# Altium integrated library TI_Logic_Specialty_Logic.IntLib: 2504 symbols (part 40 of 81)
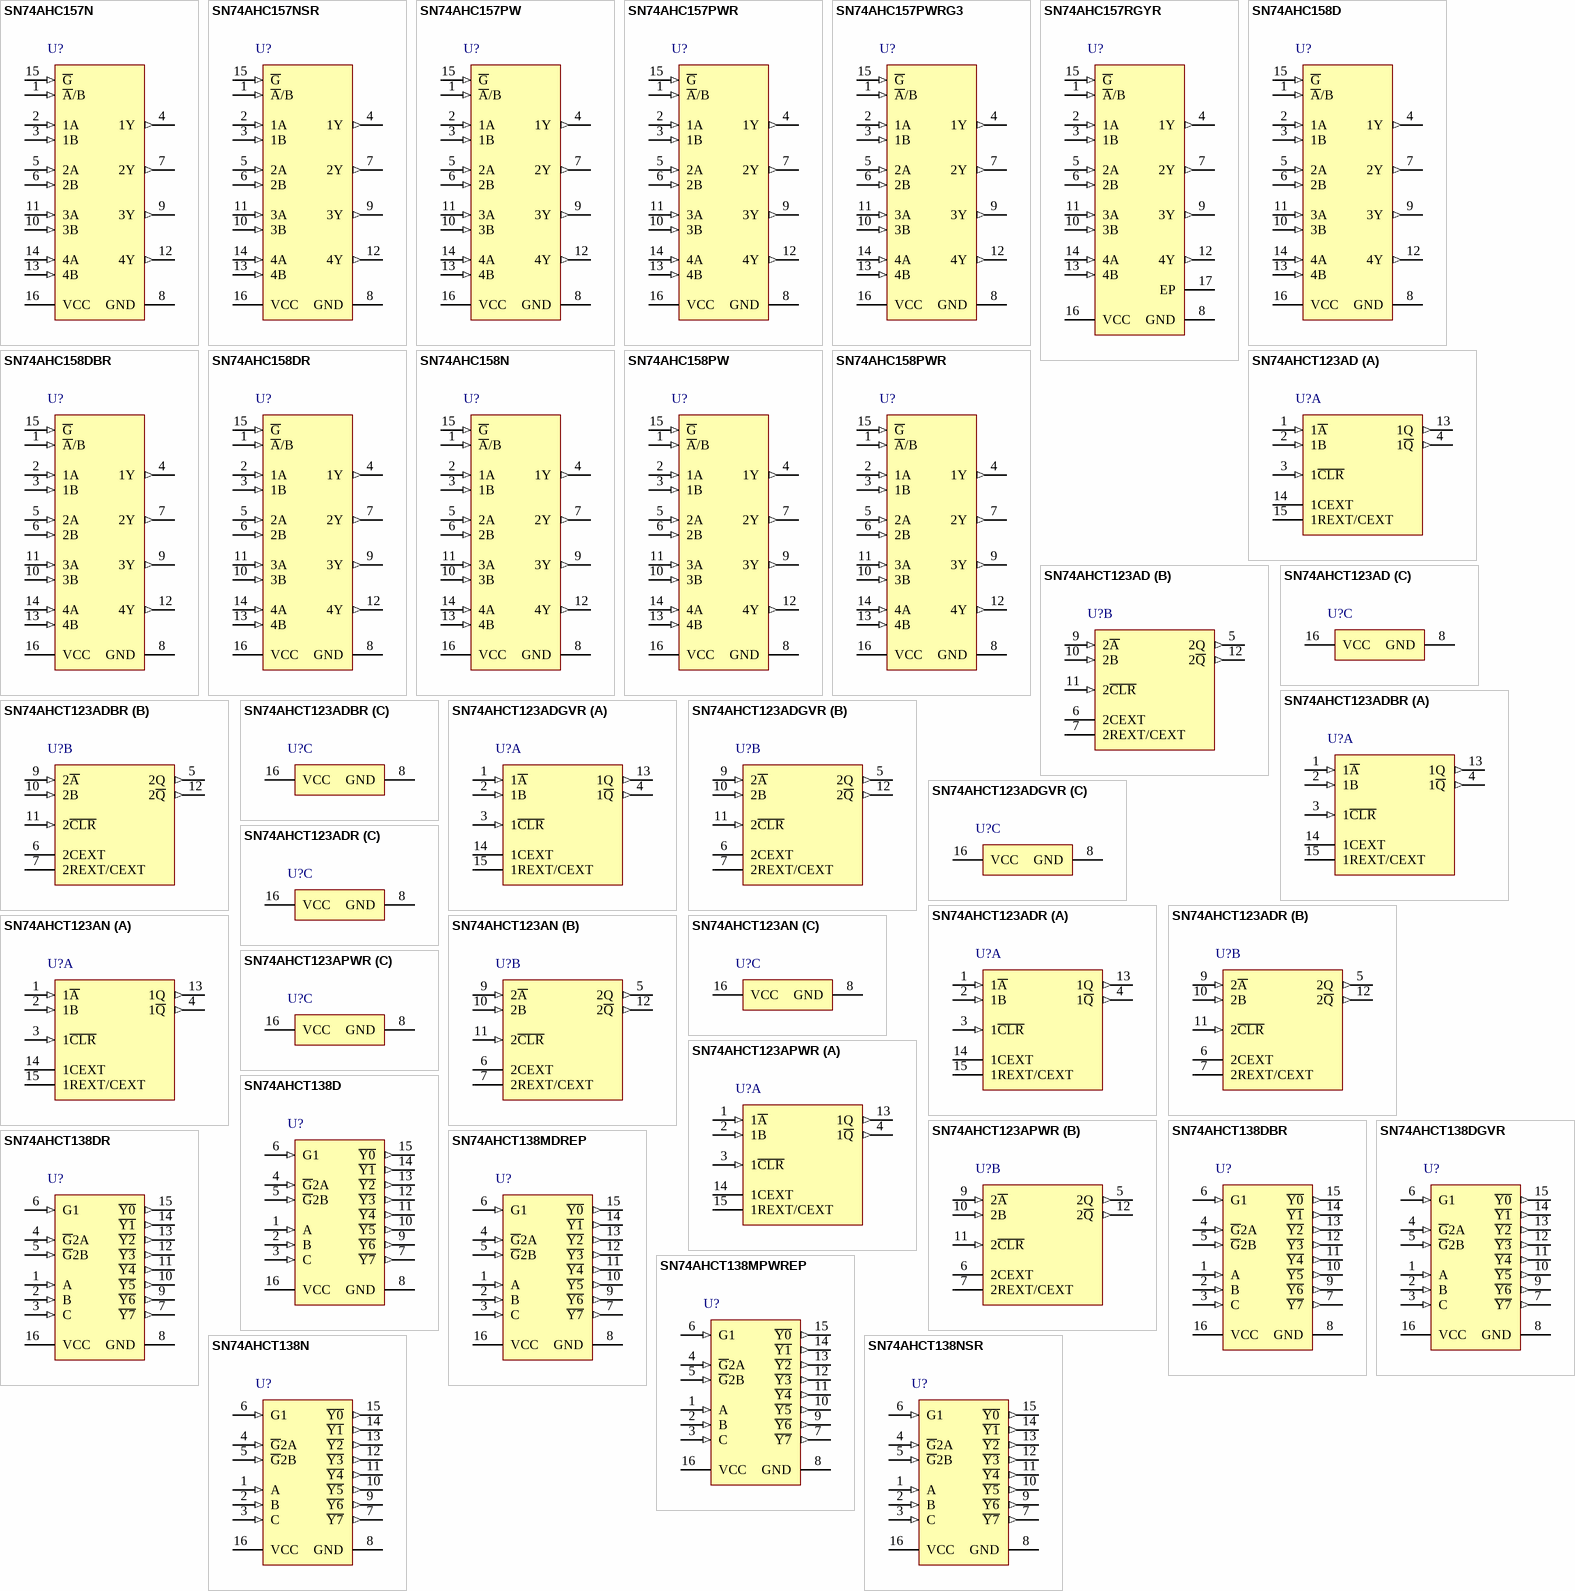
[diagram p143: symbols SN74AHC157N to SN74AHCT138NSR]

## SN74AHCT138MDREP
designator U?
Enhanced Product 3-Line To 8-Line Decoder / Demultiplexer, D0016A, LARGE T&R; Generic Part Number: SN74AHCT138-EP; Manufacturer: Texas Instruments; PartNumber: SN74AHCT138MDREP; VCC(Min)(V): 4.5; VCC(Max)(V): 5.5; ICC @ Nom Voltage(Max)(mA): 0.04; F @ Nom Voltage(Max)(Mhz): 70; Channels(#): 1; Rating: HiRel Enhanced Product; Technology Family: AHCT; Voltage(Nom)(V): 5; Schmitt Trigger: No; Output Drive (IOL/IOH)(Max)(mA): 8/-8; tpd @ Nom Voltage(Max)(ns): 12; DatasheetVersion: SCLS491; PackageReference: D0016A; Supplier 1: Mouser; Supplier Part Number 1: 595-SN74AHCT138MDREP; Supplier 2: Digi-Key; Supplier Part Number 2: 296-22282-2-ND; Supplier 3: Digi-Key; Supplier Part Number 3: 296-22282-1-ND; Supplier 4: Digi-Key; Supplier Part Number 4: 296-22282-6-ND; Operating Temperature Range(C): -55 to 125; Type: Standard; Code_JEDEC: MS-012 variation AC; ComponentLink1Description: Manufacturer URL; ComponentLink1URL: http://www.ti.com/; ComponentLink2Description: Datasheet; ComponentLink2URL: http://www.ti.com/lit/ds/symlink/sn74ahct138-ep.pdf; ComponentLink3Description: Package Specification; ComponentLink3URL: http://www.ti.com/lit/ml/mpds178g/mpds178g.pdf
footprint D0016A_N (SOIC, 16-Leads, Body 10x4mm, Pitch 1.27mm, IPC Medium Density)
footprint D0016A_M (SOIC, 16-Leads, Body 10x4mm, Pitch 1.27mm, IPC Low Density)
footprint D0016A_L (SOIC, 16-Leads, Body 10x4mm, Pitch 1.27mm, IPC High Density)
pins: 1 A (in), 2 B (in), 3 C (in), 4 ~{G}2A (in), 5 ~{G}2B (in), 6 G1 (in), 7 ~{Y7} (out), 8 GND (power), 9 ~{Y6} (out), 10 ~{Y5} (out), 11 ~{Y4} (out), 12 ~{Y3} (out), 13 ~{Y2} (out), 14 ~{Y1} (out), 15 ~{Y0} (out), 16 VCC (power)

## SN74AHCT138MPWREP
designator U?
Enhanced Product 3-Line To 8-Line Decoder / Demultiplexer, PW0016A, LARGE T&R; Generic Part Number: SN74AHCT138-EP; Manufacturer: Texas Instruments; PartNumber: SN74AHCT138MPWREP; VCC(Min)(V): 4.5; VCC(Max)(V): 5.5; ICC @ Nom Voltage(Max)(mA): 0.04; F @ Nom Voltage(Max)(Mhz): 70; Channels(#): 1; Rating: HiRel Enhanced Product; Technology Family: AHCT; Voltage(Nom)(V): 5; Schmitt Trigger: No; Output Drive (IOL/IOH)(Max)(mA): 8/-8; tpd @ Nom Voltage(Max)(ns): 12; DatasheetVersion: SCLS491; PackageReference: PW0016A; Supplier 1: Mouser; Supplier Part Number 1: 595-N74AHCT138MPWREP; Supplier 2: Digi-Key; Supplier Part Number 2: 296-22540-2-ND; Supplier 3: Digi-Key; Supplier Part Number 3: 296-22540-1-ND; Supplier 4: Digi-Key; Supplier Part Number 4: 296-22540-6-ND; Operating Temperature Range(C): -55 to 125; Type: Standard; Code_JEDEC: MO-153; ComponentLink1Description: Manufacturer URL; ComponentLink1URL: http://www.ti.com/; ComponentLink2Description: Datasheet; ComponentLink2URL: http://www.ti.com/lit/ds/symlink/sn74ahct138-ep.pdf; ComponentLink3Description: Package Specification; ComponentLink3URL: http://www.ti.com/lit/ml/mpds361/mpds361.pdf
footprint PW0016A_N (SOP, 16-Leads, Body 5.1x4.5mm, Pitch 0.65mm, IPC Medium Density)
footprint PW0016A_M (SOP, 16-Leads, Body 5.1x4.5mm, Pitch 0.65mm, IPC Low Density)
footprint PW0016A_L (SOP, 16-Leads, Body 5.1x4.5mm, Pitch 0.65mm, IPC High Density)
pins: 1 A (in), 2 B (in), 3 C (in), 4 ~{G}2A (in), 5 ~{G}2B (in), 6 G1 (in), 7 ~{Y7} (out), 8 GND (power), 9 ~{Y6} (out), 10 ~{Y5} (out), 11 ~{Y4} (out), 12 ~{Y3} (out), 13 ~{Y2} (out), 14 ~{Y1} (out), 15 ~{Y0} (out), 16 VCC (power)

## SN74AHCT138N
designator U?
3-Line to 8-Line Decoder / Demultiplexer, N0016A, TUBE; Generic Part Number: SN74AHCT138; Manufacturer: Texas Instruments; PartNumber: SN74AHCT138N; VCC(Min)(V): 4.5; VCC(Max)(V): 5.5; Output Type: CMOS; ICC @ Nom Voltage(Max)(mA): 0.04; Input Type: TTL; Bits(#): 8; F @ Nom Voltage(Max)(Mhz): 70; Configuration: 3：8; Channels(#): 1; Rating: Catalog; Technology Family: AHCT; Voltage(Nom)(V): 5; Schmitt Trigger: No; Output Drive (IOL/IOH)(Max)(mA): 8/-8; tpd @ Nom Voltage(Max)(ns): 12; DatasheetVersion: SCLS266M; PackageReference: N0016A; Supplier 1: Mouser; Supplier Part Number 1: 595-SN74AHCT138N; Supplier 2: Digi-Key; Supplier Part Number 2: 296-4666-5-ND; Function: Decoder/Demultiplexer; Operating Temperature Range(C): -40 to 85; Type: Standard; Code_JEDEC: MS-001; ComponentLink1Description: Manufacturer URL; ComponentLink1URL: http://www.ti.com/; ComponentLink2Description: Datasheet; ComponentLink2URL: http://www.ti.com/lit/ds/symlink/sn74ahct138.pdf; ComponentLink3Description: Package Specification; ComponentLink3URL: http://www.ti.com/lit/ml/mpdi002c/mpdi002c.pdf
footprint N0016A (DIP, 16-Leads, Body 19.7x6.6mm, Pitch 2.54mm)
pins: 1 A (in), 2 B (in), 3 C (in), 4 ~{G}2A (in), 5 ~{G}2B (in), 6 G1 (in), 7 ~{Y7} (out), 8 GND (power), 9 ~{Y6} (out), 10 ~{Y5} (out), 11 ~{Y4} (out), 12 ~{Y3} (out), 13 ~{Y2} (out), 14 ~{Y1} (out), 15 ~{Y0} (out), 16 VCC (power)

## SN74AHCT138NSR
designator U?
3-Line to 8-Line Decoder / Demultiplexer, NS0016A, LARGE T&R; Generic Part Number: SN74AHCT138; Manufacturer: Texas Instruments; PartNumber: SN74AHCT138NSR; VCC(Min)(V): 4.5; VCC(Max)(V): 5.5; Output Type: CMOS; ICC @ Nom Voltage(Max)(mA): 0.04; Input Type: TTL; Bits(#): 8; F @ Nom Voltage(Max)(Mhz): 70; Configuration: 3：8; Channels(#): 1; Rating: Catalog; Technology Family: AHCT; Voltage(Nom)(V): 5; Schmitt Trigger: No; Output Drive (IOL/IOH)(Max)(mA): 8/-8; tpd @ Nom Voltage(Max)(ns): 12; DatasheetVersion: SCLS266M; PackageReference: NS0016A; Supplier 1: Mouser; Supplier Part Number 1: 595-SN74AHCT138NSR; Supplier 2: Digi-Key; Supplier Part Number 2: 296-31747-2-ND; Supplier 3: Digi-Key; Supplier Part Number 3: 296-31747-1-ND; Supplier 4: Digi-Key; Supplier Part Number 4: 296-31747-6-ND; Function: Decoder/Demultiplexer; Operating Temperature Range(C): -40 to 85; Type: Standard; ComponentLink1Description: Manufacturer URL; ComponentLink1URL: http://www.ti.com/; ComponentLink2Description: Datasheet; ComponentLink2URL: http://www.ti.com/lit/ds/symlink/sn74ahct138.pdf; ComponentLink3Description: Package Specification; ComponentLink3URL: http://www.ti.com/lit/ml/msop002a/msop002a.pdf
footprint NS0016A_N (SOIC,16-Leads,Body 10.5x5.6mm,Pitch 1.27mm,IPC Medium Density)
footprint NS0016A_M (SOIC,16-Leads,Body 10.5x5.6mm,Pitch 1.27mm,IPC Low Density)
footprint NS0016A_L (SOIC,16-Leads,Body 10.5x5.6mm,Pitch 1.27mm,IPC High Density)
pins: 1 A (in), 2 B (in), 3 C (in), 4 ~{G}2A (in), 5 ~{G}2B (in), 6 G1 (in), 7 ~{Y7} (out), 8 GND (power), 9 ~{Y6} (out), 10 ~{Y5} (out), 11 ~{Y4} (out), 12 ~{Y3} (out), 13 ~{Y2} (out), 14 ~{Y1} (out), 15 ~{Y0} (out), 16 VCC (power)

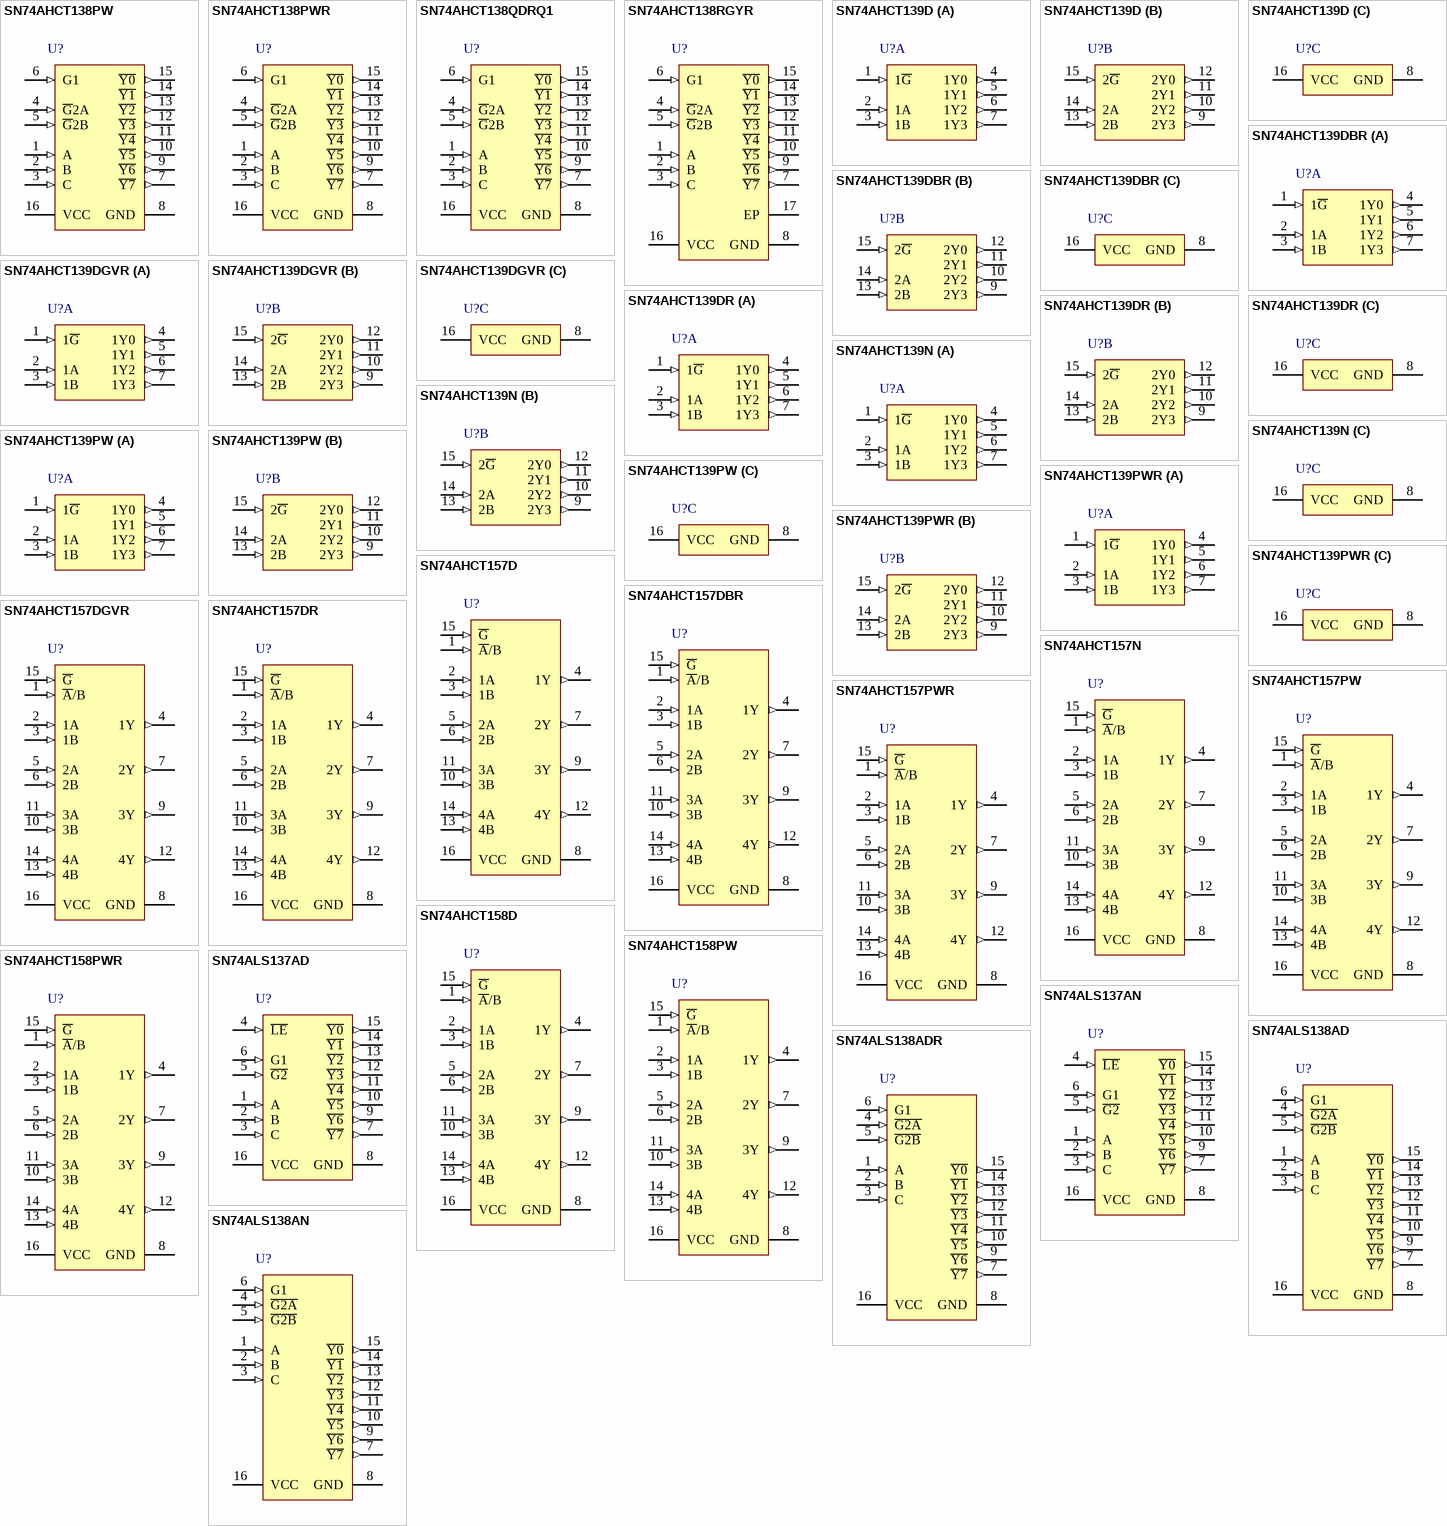
[diagram p52: symbols SN74AHCT138PW to SN74ALS138AN]

## SN74AHCT138PW
designator U?
3-Line to 8-Line Decoder / Demultiplexer, PW0016A, TUBE; Generic Part Number: SN74AHCT138; Manufacturer: Texas Instruments; PartNumber: SN74AHCT138PW; VCC(Min)(V): 4.5; VCC(Max)(V): 5.5; Output Type: CMOS; ICC @ Nom Voltage(Max)(mA): 0.04; Input Type: TTL; Bits(#): 8; F @ Nom Voltage(Max)(Mhz): 70; Configuration: 3：8; Channels(#): 1; Rating: Catalog; Technology Family: AHCT; Voltage(Nom)(V): 5; Schmitt Trigger: No; Output Drive (IOL/IOH)(Max)(mA): 8/-8; tpd @ Nom Voltage(Max)(ns): 12; DatasheetVersion: SCLS266M; PackageReference: PW0016A; Supplier 1: Mouser; Supplier Part Number 1: 595-SN74AHCT138PW; Supplier 2: Digi-Key; Supplier Part Number 2: 296-33686-5-ND; Function: Decoder/Demultiplexer; Operating Temperature Range(C): -40 to 85; Type: Standard; Code_JEDEC: MO-153; ComponentLink1Description: Manufacturer URL; ComponentLink1URL: http://www.ti.com/; ComponentLink2Description: Datasheet; ComponentLink2URL: http://www.ti.com/lit/ds/symlink/sn74ahct138.pdf; ComponentLink3Description: Package Specification; ComponentLink3URL: http://www.ti.com/lit/ml/mpds361/mpds361.pdf
footprint PW0016A_N (SOP, 16-Leads, Body 5.1x4.5mm, Pitch 0.65mm, IPC Medium Density)
footprint PW0016A_M (SOP, 16-Leads, Body 5.1x4.5mm, Pitch 0.65mm, IPC Low Density)
footprint PW0016A_L (SOP, 16-Leads, Body 5.1x4.5mm, Pitch 0.65mm, IPC High Density)
pins: 1 A (in), 2 B (in), 3 C (in), 4 ~{G}2A (in), 5 ~{G}2B (in), 6 G1 (in), 7 ~{Y7} (out), 8 GND (power), 9 ~{Y6} (out), 10 ~{Y5} (out), 11 ~{Y4} (out), 12 ~{Y3} (out), 13 ~{Y2} (out), 14 ~{Y1} (out), 15 ~{Y0} (out), 16 VCC (power)

## SN74AHCT138PWR
designator U?
3-Line to 8-Line Decoder / Demultiplexer, PW0016A, LARGE T&R; Generic Part Number: SN74AHCT138; Manufacturer: Texas Instruments; PartNumber: SN74AHCT138PWR; VCC(Min)(V): 4.5; VCC(Max)(V): 5.5; Output Type: CMOS; ICC @ Nom Voltage(Max)(mA): 0.04; Input Type: TTL; Bits(#): 8; F @ Nom Voltage(Max)(Mhz): 70; Configuration: 3：8; Channels(#): 1; Rating: Catalog; Technology Family: AHCT; Voltage(Nom)(V): 5; Schmitt Trigger: No; Output Drive (IOL/IOH)(Max)(mA): 8/-8; tpd @ Nom Voltage(Max)(ns): 12; DatasheetVersion: SCLS266M; PackageReference: PW0016A; Supplier 1: Mouser; Supplier Part Number 1: 595-SN74AHCT138PWR; Supplier 2: Digi-Key; Supplier Part Number 2: 296-1109-2-ND; Supplier 3: Digi-Key; Supplier Part Number 3: 296-1109-1-ND; Supplier 4: Digi-Key; Supplier Part Number 4: 296-1109-6-ND; Function: Decoder/Demultiplexer; Operating Temperature Range(C): -40 to 85; Type: Standard; Code_JEDEC: MO-153; ComponentLink1Description: Manufacturer URL; ComponentLink1URL: http://www.ti.com/; ComponentLink2Description: Datasheet; ComponentLink2URL: http://www.ti.com/lit/ds/symlink/sn74ahct138.pdf; ComponentLink3Description: Package Specification; ComponentLink3URL: http://www.ti.com/lit/ml/mpds361/mpds361.pdf
footprint PW0016A_N (SOP, 16-Leads, Body 5.1x4.5mm, Pitch 0.65mm, IPC Medium Density)
footprint PW0016A_M (SOP, 16-Leads, Body 5.1x4.5mm, Pitch 0.65mm, IPC Low Density)
footprint PW0016A_L (SOP, 16-Leads, Body 5.1x4.5mm, Pitch 0.65mm, IPC High Density)
pins: 1 A (in), 2 B (in), 3 C (in), 4 ~{G}2A (in), 5 ~{G}2B (in), 6 G1 (in), 7 ~{Y7} (out), 8 GND (power), 9 ~{Y6} (out), 10 ~{Y5} (out), 11 ~{Y4} (out), 12 ~{Y3} (out), 13 ~{Y2} (out), 14 ~{Y1} (out), 15 ~{Y0} (out), 16 VCC (power)

## SN74AHCT138QDRQ1
designator U?
Automotive Catalog 3-Line to 8-Line Decoders/Demultiplexers, D0016A, LARGE T&R; Generic Part Number: SN74AHCT138Q-Q1; Manufacturer: Texas Instruments; PartNumber: SN74AHCT138QDRQ1; VCC(Min)(V): 4.5; VCC(Max)(V): 5.5; Output Type: CMOS; ICC @ Nom Voltage(Max)(mA): 0.04; Input Type: TTL; Bits(#): 4; F @ Nom Voltage(Max)(Mhz): 70; Channels(#): 1; Technology Family: AHCT; Voltage(Nom)(V): 5; Schmitt Trigger: No; Output Drive (IOL/IOH)(Max)(mA): 8/-8; tpd @ Nom Voltage(Max)(ns): 12; DatasheetVersion: SGDS022A; PackageReference: D0016A; Supplier 1: Mouser; Supplier Part Number 1: 595-SN74AHCT138QDRQ1; Supplier 2: Digi-Key; Supplier Part Number 2: SN74AHCT138QDRQ1-ND; Operating Temperature Range(C): -40 to 125; Type: Standard; Rating: Automotive; Code_JEDEC: MS-012 variation AC; ComponentLink1Description: Manufacturer URL; ComponentLink1URL: http://www.ti.com/; ComponentLink2Description: Datasheet; ComponentLink2URL: http://www.ti.com/lit/ds/symlink/sn74ahct138q-q1.pdf; ComponentLink3Description: Package Specification; ComponentLink3URL: http://www.ti.com/lit/ml/mpds178g/mpds178g.pdf
footprint D0016A_N (SOIC, 16-Leads, Body 10x4mm, Pitch 1.27mm, IPC Medium Density)
footprint D0016A_M (SOIC, 16-Leads, Body 10x4mm, Pitch 1.27mm, IPC Low Density)
footprint D0016A_L (SOIC, 16-Leads, Body 10x4mm, Pitch 1.27mm, IPC High Density)
pins: 1 A (in), 2 B (in), 3 C (in), 4 ~{G}2A (in), 5 ~{G}2B (in), 6 G1 (in), 7 ~{Y7} (out), 8 GND (power), 9 ~{Y6} (out), 10 ~{Y5} (out), 11 ~{Y4} (out), 12 ~{Y3} (out), 13 ~{Y2} (out), 14 ~{Y1} (out), 15 ~{Y0} (out), 16 VCC (power)

## SN74AHCT138RGYR
designator U?
3-Line to 8-Line Decoder / Demultiplexer, RGY0016A, LARGE T&R; Generic Part Number: SN74AHCT138; Manufacturer: Texas Instruments; PartNumber: SN74AHCT138RGYR; VCC(Min)(V): 4.5; VCC(Max)(V): 5.5; Output Type: CMOS; ICC @ Nom Voltage(Max)(mA): 0.04; Input Type: TTL; Bits(#): 8; F @ Nom Voltage(Max)(Mhz): 70; Configuration: 3：8; Channels(#): 1; Rating: Catalog; Technology Family: AHCT; Voltage(Nom)(V): 5; Schmitt Trigger: No; Output Drive (IOL/IOH)(Max)(mA): 8/-8; tpd @ Nom Voltage(Max)(ns): 12; DatasheetVersion: SCLS266M; PackageReference: RGY0016A; Supplier 1: Mouser; Supplier Part Number 1: 595-SN74AHCT138RGYR; Supplier 2: Digi-Key; Supplier Part Number 2: 296-13911-2-ND; Supplier 3: Digi-Key; Supplier Part Number 3: 296-13911-1-ND; Supplier 4: Digi-Key; Supplier Part Number 4: 296-13911-6-ND; Function: Decoder/Demultiplexer; Operating Temperature Range(C): -40 to 85; Type: Standard; Code_JEDEC: MO-241; ComponentLink1Description: Manufacturer URL; ComponentLink1URL: http://www.ti.com/; ComponentLink2Description: Datasheet; ComponentLink2URL: http://www.ti.com/lit/ds/symlink/sn74ahct138.pdf; ComponentLink3Description: Package Specification; ComponentLink3URL: http://www.ti.com/lit/ml/mpqf115g/mpqf115g.pdf
footprint RGY0016A_V (QFN, 16-Leads, Body 4x3.5mm, Thermal Pad 2.55x2.05mm, TI Recommend)
pins: 1 A (in), 2 B (in), 3 C (in), 4 ~{G}2A (in), 5 ~{G}2B (in), 6 G1 (in), 7 ~{Y7} (out), 8 GND (power), 9 ~{Y6} (out), 10 ~{Y5} (out), 11 ~{Y4} (out), 12 ~{Y3} (out), 13 ~{Y2} (out), 14 ~{Y1} (out), 15 ~{Y0} (out), 16 VCC (power), 17 EP

## SN74AHCT139D
designator U?
Dual 2-Line To 4-Line Decoders / Demultiplexers, D0016A, TUBE; Generic Part Number: SN74AHCT139; Manufacturer: Texas Instruments; PartNumber: SN74AHCT139D; VCC(Min)(V): 4.5; VCC(Max)(V): 5.5; Output Type: CMOS; Function: Decoder/Demultiplexer; ICC @ Nom Voltage(Max)(mA): 0.02; Input Type: TTL; Bits(#): 4; F @ Nom Voltage(Max)(Mhz): 70; Configuration: 2：4; Channels(#): 2; Rating: Catalog; Technology Family: AHCT; Voltage(Nom)(V): 5; Schmitt Trigger: No; Output Drive (IOL/IOH)(Max)(mA): 8/-8; tpd @ Nom Voltage(Max)(ns): 8.5; DatasheetVersion: SCLS267M; PackageReference: D0016A; Supplier 1: Mouser; Supplier Part Number 1: 595-SN74AHCT139D; Supplier 2: Digi-Key; Supplier Part Number 2: 296-4667-5-ND; Operating Temperature Range(C): -40 to 85; Type: Standard; Code_JEDEC: MS-012 variation AC; ComponentLink1Description: Manufacturer URL; ComponentLink1URL: http://www.ti.com/; ComponentLink2Description: Datasheet; ComponentLink2URL: http://www.ti.com/lit/ds/symlink/sn74ahct139.pdf; ComponentLink3Description: Package Specification; ComponentLink3URL: http://www.ti.com/lit/ml/mpds178g/mpds178g.pdf
footprint D0016A_N (SOIC, 16-Leads, Body 10x4mm, Pitch 1.27mm, IPC Medium Density)
footprint D0016A_M (SOIC, 16-Leads, Body 10x4mm, Pitch 1.27mm, IPC Low Density)
footprint D0016A_L (SOIC, 16-Leads, Body 10x4mm, Pitch 1.27mm, IPC High Density)
part A pins: 1 1~{G} (in), 2 1A (in), 3 1B (in), 4 1Y0 (out), 5 1Y1 (out), 6 1Y2 (out), 7 1Y3 (out)
part B pins: 9 2Y3 (out), 10 2Y2 (out), 11 2Y1 (out), 12 2Y0 (out), 13 2B (in), 14 2A (in), 15 2~{G} (in)
part C pins: 8 GND (power), 16 VCC (power)

## SN74AHCT139DBR
designator U?
Dual 2-Line To 4-Line Decoders / Demultiplexers, DB0016A, LARGE T&R; Generic Part Number: SN74AHCT139; Manufacturer: Texas Instruments; PartNumber: SN74AHCT139DBR; VCC(Min)(V): 4.5; VCC(Max)(V): 5.5; Output Type: CMOS; Function: Decoder/Demultiplexer; ICC @ Nom Voltage(Max)(mA): 0.02; Input Type: TTL; Bits(#): 4; F @ Nom Voltage(Max)(Mhz): 70; Configuration: 2：4; Channels(#): 2; Rating: Catalog; Technology Family: AHCT; Voltage(Nom)(V): 5; Schmitt Trigger: No; Output Drive (IOL/IOH)(Max)(mA): 8/-8; tpd @ Nom Voltage(Max)(ns): 8.5; DatasheetVersion: SCLS267M; PackageReference: DB0016A; Supplier 1: Mouser; Supplier Part Number 1: 595-SN74AHCT139DBR; Supplier 2: Digi-Key; Supplier Part Number 2: 296-4668-2-ND; Supplier 3: Digi-Key; Supplier Part Number 3: 296-4668-1-ND; Supplier 4: Digi-Key; Supplier Part Number 4: 296-4668-6-ND; Operating Temperature Range(C): -40 to 85; Type: Standard; Code_JEDEC: MO-150; ComponentLink1Description: Manufacturer URL; ComponentLink1URL: http://www.ti.com/; ComponentLink2Description: Datasheet; ComponentLink2URL: http://www.ti.com/lit/ds/symlink/sn74ahct139.pdf; ComponentLink3Description: Package Specification; ComponentLink3URL: http://www.ti.com/lit/ml/mpds507/mpds507.pdf
footprint DB0016A_N (SOP, 16-Leads, Body 5.6x6.5mm, Pitch 0.65mm, IPC Medium Density)
footprint DB0016A_M (SOP, 16-Leads, Body 5.6x6.5mm, Pitch 0.65mm, IPC Low Density)
footprint DB0016A_L (SOP, 16-Leads, Body 5.6x6.5mm, Pitch 0.65mm, IPC High Density)
part A pins: 1 1~{G} (in), 2 1A (in), 3 1B (in), 4 1Y0 (out), 5 1Y1 (out), 6 1Y2 (out), 7 1Y3 (out)
part B pins: 9 2Y3 (out), 10 2Y2 (out), 11 2Y1 (out), 12 2Y0 (out), 13 2B (in), 14 2A (in), 15 2~{G} (in)
part C pins: 8 GND (power), 16 VCC (power)

## SN74AHCT139DGVR
designator U?
Dual 2-Line To 4-Line Decoders / Demultiplexers, DGV0016A, LARGE T&R; Generic Part Number: SN74AHCT139; Manufacturer: Texas Instruments; PartNumber: SN74AHCT139DGVR; VCC(Min)(V): 4.5; VCC(Max)(V): 5.5; Output Type: CMOS; Function: Decoder/Demultiplexer; ICC @ Nom Voltage(Max)(mA): 0.02; Input Type: TTL; Bits(#): 4; F @ Nom Voltage(Max)(Mhz): 70; Configuration: 2：4; Channels(#): 2; Rating: Catalog; Technology Family: AHCT; Voltage(Nom)(V): 5; Schmitt Trigger: No; Output Drive (IOL/IOH)(Max)(mA): 8/-8; tpd @ Nom Voltage(Max)(ns): 8.5; DatasheetVersion: SCLS267M; PackageReference: DGV0016A; Supplier 1: Mouser; Supplier Part Number 1: 595-SN74AHCT139DGVR; Supplier 2: Digi-Key; Supplier Part Number 2: 296-4669-2-ND; Supplier 3: Digi-Key; Supplier Part Number 3: 296-4669-1-ND; Supplier 4: Digi-Key; Supplier Part Number 4: 296-4669-6-ND; Operating Temperature Range(C): -40 to 85; Type: Standard; Code_JEDEC: MO-194; ComponentLink1Description: Manufacturer URL; ComponentLink1URL: http://www.ti.com/; ComponentLink2Description: Datasheet; ComponentLink2URL: http://www.ti.com/lit/ds/symlink/sn74ahct139.pdf; ComponentLink3Description: Package Specification; ComponentLink3URL: http://www.ti.com/lit/ml/mpds006c/mpds006c.pdf
footprint DGV0016A_N (SOP, 16-Leads, Body 4.5x3.7mm, Pitch 0.4mm, IPC Medium Density)
footprint DGV0016A_M (SOP, 16-Leads, Body 4.5x3.7mm, Pitch 0.4mm, IPC Low Density)
footprint DGV0016A_L (SOP, 16-Leads, Body 4.5x3.7mm, Pitch 0.4mm, IPC High Density)
part A pins: 1 1~{G} (in), 2 1A (in), 3 1B (in), 4 1Y0 (out), 5 1Y1 (out), 6 1Y2 (out), 7 1Y3 (out)
part B pins: 9 2Y3 (out), 10 2Y2 (out), 11 2Y1 (out), 12 2Y0 (out), 13 2B (in), 14 2A (in), 15 2~{G} (in)
part C pins: 8 GND (power), 16 VCC (power)

## SN74AHCT139DR
designator U?
Dual 2-Line To 4-Line Decoders / Demultiplexers, D0016A, LARGE T&R; Generic Part Number: SN74AHCT139; Manufacturer: Texas Instruments; PartNumber: SN74AHCT139DR; VCC(Min)(V): 4.5; VCC(Max)(V): 5.5; Output Type: CMOS; Function: Decoder/Demultiplexer; ICC @ Nom Voltage(Max)(mA): 0.02; Input Type: TTL; Bits(#): 4; F @ Nom Voltage(Max)(Mhz): 70; Configuration: 2：4; Channels(#): 2; Rating: Catalog; Technology Family: AHCT; Voltage(Nom)(V): 5; Schmitt Trigger: No; Output Drive (IOL/IOH)(Max)(mA): 8/-8; tpd @ Nom Voltage(Max)(ns): 8.5; DatasheetVersion: SCLS267M; PackageReference: D0016A; Supplier 1: Mouser; Supplier Part Number 1: 595-SN74AHCT139DR; Supplier 2: Digi-Key; Supplier Part Number 2: 296-14702-2-ND; Supplier 3: Digi-Key; Supplier Part Number 3: 296-14702-1-ND; Supplier 4: Digi-Key; Supplier Part Number 4: 296-14702-6-ND; Operating Temperature Range(C): -40 to 85; Type: Standard; Code_JEDEC: MS-012 variation AC; ComponentLink1Description: Manufacturer URL; ComponentLink1URL: http://www.ti.com/; ComponentLink2Description: Datasheet; ComponentLink2URL: http://www.ti.com/lit/ds/symlink/sn74ahct139.pdf; ComponentLink3Description: Package Specification; ComponentLink3URL: http://www.ti.com/lit/ml/mpds178g/mpds178g.pdf
footprint D0016A_N (SOIC, 16-Leads, Body 10x4mm, Pitch 1.27mm, IPC Medium Density)
footprint D0016A_M (SOIC, 16-Leads, Body 10x4mm, Pitch 1.27mm, IPC Low Density)
footprint D0016A_L (SOIC, 16-Leads, Body 10x4mm, Pitch 1.27mm, IPC High Density)
part A pins: 1 1~{G} (in), 2 1A (in), 3 1B (in), 4 1Y0 (out), 5 1Y1 (out), 6 1Y2 (out), 7 1Y3 (out)
part B pins: 9 2Y3 (out), 10 2Y2 (out), 11 2Y1 (out), 12 2Y0 (out), 13 2B (in), 14 2A (in), 15 2~{G} (in)
part C pins: 8 GND (power), 16 VCC (power)

## SN74AHCT139N
designator U?
Dual 2-Line To 4-Line Decoders / Demultiplexers, N0016A, TUBE; Generic Part Number: SN74AHCT139; Manufacturer: Texas Instruments; PartNumber: SN74AHCT139N; VCC(Min)(V): 4.5; VCC(Max)(V): 5.5; Output Type: CMOS; Function: Decoder/Demultiplexer; ICC @ Nom Voltage(Max)(mA): 0.02; Input Type: TTL; Bits(#): 4; F @ Nom Voltage(Max)(Mhz): 70; Configuration: 2：4; Channels(#): 2; Rating: Catalog; Technology Family: AHCT; Voltage(Nom)(V): 5; Schmitt Trigger: No; Output Drive (IOL/IOH)(Max)(mA): 8/-8; tpd @ Nom Voltage(Max)(ns): 8.5; DatasheetVersion: SCLS267M; PackageReference: N0016A; Supplier 1: Mouser; Supplier Part Number 1: 595-SN74AHCT139N; Supplier 2: Digi-Key; Supplier Part Number 2: 296-4670-5-ND; Operating Temperature Range(C): -40 to 85; Type: Standard; Code_JEDEC: MS-001; ComponentLink1Description: Manufacturer URL; ComponentLink1URL: http://www.ti.com/; ComponentLink2Description: Datasheet; ComponentLink2URL: http://www.ti.com/lit/ds/symlink/sn74ahct139.pdf; ComponentLink3Description: Package Specification; ComponentLink3URL: http://www.ti.com/lit/ml/mpdi002c/mpdi002c.pdf
footprint N0016A (DIP, 16-Leads, Body 19.7x6.6mm, Pitch 2.54mm)
part A pins: 1 1~{G} (in), 2 1A (in), 3 1B (in), 4 1Y0 (out), 5 1Y1 (out), 6 1Y2 (out), 7 1Y3 (out)
part B pins: 9 2Y3 (out), 10 2Y2 (out), 11 2Y1 (out), 12 2Y0 (out), 13 2B (in), 14 2A (in), 15 2~{G} (in)
part C pins: 8 GND (power), 16 VCC (power)

## SN74AHCT139PW
designator U?
Dual 2-Line To 4-Line Decoders / Demultiplexers, PW0016A, TUBE; Generic Part Number: SN74AHCT139; Manufacturer: Texas Instruments; PartNumber: SN74AHCT139PW; VCC(Min)(V): 4.5; VCC(Max)(V): 5.5; Output Type: CMOS; Function: Decoder/Demultiplexer; ICC @ Nom Voltage(Max)(mA): 0.02; Input Type: TTL; Bits(#): 4; F @ Nom Voltage(Max)(Mhz): 70; Configuration: 2：4; Channels(#): 2; Rating: Catalog; Technology Family: AHCT; Voltage(Nom)(V): 5; Schmitt Trigger: No; Output Drive (IOL/IOH)(Max)(mA): 8/-8; tpd @ Nom Voltage(Max)(ns): 8.5; DatasheetVersion: SCLS267M; PackageReference: PW0016A; Supplier 1: Mouser; Supplier Part Number 1: 595-SN74AHCT139PW; Supplier 2: Digi-Key; Supplier Part Number 2: 296-33687-5-ND; Operating Temperature Range(C): -40 to 85; Type: Standard; Code_JEDEC: MO-153; ComponentLink1Description: Manufacturer URL; ComponentLink1URL: http://www.ti.com/; ComponentLink2Description: Datasheet; ComponentLink2URL: http://www.ti.com/lit/ds/symlink/sn74ahct139.pdf; ComponentLink3Description: Package Specification; ComponentLink3URL: http://www.ti.com/lit/ml/mpds361/mpds361.pdf
footprint PW0016A_N (SOP, 16-Leads, Body 5.1x4.5mm, Pitch 0.65mm, IPC Medium Density)
footprint PW0016A_M (SOP, 16-Leads, Body 5.1x4.5mm, Pitch 0.65mm, IPC Low Density)
footprint PW0016A_L (SOP, 16-Leads, Body 5.1x4.5mm, Pitch 0.65mm, IPC High Density)
part A pins: 1 1~{G} (in), 2 1A (in), 3 1B (in), 4 1Y0 (out), 5 1Y1 (out), 6 1Y2 (out), 7 1Y3 (out)
part B pins: 9 2Y3 (out), 10 2Y2 (out), 11 2Y1 (out), 12 2Y0 (out), 13 2B (in), 14 2A (in), 15 2~{G} (in)
part C pins: 8 GND (power), 16 VCC (power)

## SN74AHCT139PWR
designator U?
Dual 2-Line To 4-Line Decoders / Demultiplexers, PW0016A, LARGE T&R; Generic Part Number: SN74AHCT139; Manufacturer: Texas Instruments; PartNumber: SN74AHCT139PWR; VCC(Min)(V): 4.5; VCC(Max)(V): 5.5; Output Type: CMOS; Function: Decoder/Demultiplexer; ICC @ Nom Voltage(Max)(mA): 0.02; Input Type: TTL; Bits(#): 4; F @ Nom Voltage(Max)(Mhz): 70; Configuration: 2：4; Channels(#): 2; Rating: Catalog; Technology Family: AHCT; Voltage(Nom)(V): 5; Schmitt Trigger: No; Output Drive (IOL/IOH)(Max)(mA): 8/-8; tpd @ Nom Voltage(Max)(ns): 8.5; DatasheetVersion: SCLS267M; PackageReference: PW0016A; Supplier 1: Mouser; Supplier Part Number 1: 595-SN74AHCT139PWR; Supplier 2: Digi-Key; Supplier Part Number 2: 296-4671-2-ND; Supplier 3: Digi-Key; Supplier Part Number 3: 296-4671-1-ND; Supplier 4: Digi-Key; Supplier Part Number 4: 296-4671-6-ND; Operating Temperature Range(C): -40 to 85; Type: Standard; Code_JEDEC: MO-153; ComponentLink1Description: Manufacturer URL; ComponentLink1URL: http://www.ti.com/; ComponentLink2Description: Datasheet; ComponentLink2URL: http://www.ti.com/lit/ds/symlink/sn74ahct139.pdf; ComponentLink3Description: Package Specification; ComponentLink3URL: http://www.ti.com/lit/ml/mpds361/mpds361.pdf
footprint PW0016A_N (SOP, 16-Leads, Body 5.1x4.5mm, Pitch 0.65mm, IPC Medium Density)
footprint PW0016A_M (SOP, 16-Leads, Body 5.1x4.5mm, Pitch 0.65mm, IPC Low Density)
footprint PW0016A_L (SOP, 16-Leads, Body 5.1x4.5mm, Pitch 0.65mm, IPC High Density)
part A pins: 1 1~{G} (in), 2 1A (in), 3 1B (in), 4 1Y0 (out), 5 1Y1 (out), 6 1Y2 (out), 7 1Y3 (out)
part B pins: 9 2Y3 (out), 10 2Y2 (out), 11 2Y1 (out), 12 2Y0 (out), 13 2B (in), 14 2A (in), 15 2~{G} (in)
part C pins: 8 GND (power), 16 VCC (power)

## SN74AHCT157D
designator U?
Quadruple 2-Line To 1-Line Data Selectors / Multiplexers, D0016A, TUBE; Generic Part Number: SN74AHCT157; Manufacturer: Texas Instruments; PartNumber: SN74AHCT157D; VCC(Min)(V): 4.5; VCC(Max)(V): 5.5; Output Type: CMOS; Function: Encoder/Multiplexer; ICC @ Nom Voltage(Max)(mA): 0.02; Input Type: TTL; Bits(#): 2; F @ Nom Voltage(Max)(Mhz): 70; Configuration: 2：1; Channels(#): 4; Rating: Catalog; Technology Family: AHCT; Voltage(Nom)(V): 5; Schmitt Trigger: No; Output Drive (IOL/IOH)(Max)(mA): 8/-8; tpd @ Nom Voltage(Max)(ns): 7.5; DatasheetVersion: SCLS347K; PackageReference: D0016A; Supplier 1: Mouser; Supplier Part Number 1: 595-SN74AHCT157D; Supplier 2: Digi-Key; Supplier Part Number 2: 296-4675-5-ND; Operating Temperature Range(C): -40 to 85; Type: Standard; Code_JEDEC: MS-012 variation AC; ComponentLink1Description: Manufacturer URL; ComponentLink1URL: http://www.ti.com/; ComponentLink2Description: Datasheet; ComponentLink2URL: http://www.ti.com/lit/ds/symlink/sn74ahct157.pdf; ComponentLink3Description: Package Specification; ComponentLink3URL: http://www.ti.com/lit/ml/mpds178g/mpds178g.pdf
footprint D0016A_N (SOIC, 16-Leads, Body 10x4mm, Pitch 1.27mm, IPC Medium Density)
footprint D0016A_M (SOIC, 16-Leads, Body 10x4mm, Pitch 1.27mm, IPC Low Density)
footprint D0016A_L (SOIC, 16-Leads, Body 10x4mm, Pitch 1.27mm, IPC High Density)
pins: 1 ~{A}/B (in), 2 1A (in), 3 1B (in), 4 1Y (out), 5 2A (in), 6 2B (in), 7 2Y (out), 8 GND (power), 9 3Y (out), 10 3B (in), 11 3A (in), 12 4Y (out), 13 4B (in), 14 4A (in), 15 ~{G} (in), 16 VCC (power)

## SN74AHCT157DBR
designator U?
Quadruple 2-Line To 1-Line Data Selectors / Multiplexers, DB0016A, LARGE T&R; Generic Part Number: SN74AHCT157; Manufacturer: Texas Instruments; PartNumber: SN74AHCT157DBR; VCC(Min)(V): 4.5; VCC(Max)(V): 5.5; Output Type: CMOS; Function: Encoder/Multiplexer; ICC @ Nom Voltage(Max)(mA): 0.02; Input Type: TTL; Bits(#): 2; F @ Nom Voltage(Max)(Mhz): 70; Configuration: 2：1; Channels(#): 4; Rating: Catalog; Technology Family: AHCT; Voltage(Nom)(V): 5; Schmitt Trigger: No; Output Drive (IOL/IOH)(Max)(mA): 8/-8; tpd @ Nom Voltage(Max)(ns): 7.5; DatasheetVersion: SCLS347K; PackageReference: DB0016A; Supplier 1: Mouser; Supplier Part Number 1: 595-SN74AHCT157DBR; Supplier 2: Digi-Key; Supplier Part Number 2: 296-4676-2-ND; Supplier 3: Digi-Key; Supplier Part Number 3: 296-4676-1-ND; Supplier 4: Digi-Key; Supplier Part Number 4: 296-4676-6-ND; Operating Temperature Range(C): -40 to 85; Type: Standard; Code_JEDEC: MO-150; ComponentLink1Description: Manufacturer URL; ComponentLink1URL: http://www.ti.com/; ComponentLink2Description: Datasheet; ComponentLink2URL: http://www.ti.com/lit/ds/symlink/sn74ahct157.pdf; ComponentLink3Description: Package Specification; ComponentLink3URL: http://www.ti.com/lit/ml/mpds507/mpds507.pdf
footprint DB0016A_N (SOP, 16-Leads, Body 5.6x6.5mm, Pitch 0.65mm, IPC Medium Density)
footprint DB0016A_M (SOP, 16-Leads, Body 5.6x6.5mm, Pitch 0.65mm, IPC Low Density)
footprint DB0016A_L (SOP, 16-Leads, Body 5.6x6.5mm, Pitch 0.65mm, IPC High Density)
pins: 1 ~{A}/B (in), 2 1A (in), 3 1B (in), 4 1Y (out), 5 2A (in), 6 2B (in), 7 2Y (out), 8 GND (power), 9 3Y (out), 10 3B (in), 11 3A (in), 12 4Y (out), 13 4B (in), 14 4A (in), 15 ~{G} (in), 16 VCC (power)

## SN74AHCT157DGVR
designator U?
Quadruple 2-Line To 1-Line Data Selectors / Multiplexers, DGV0016A, LARGE T&R; Generic Part Number: SN74AHCT157; Manufacturer: Texas Instruments; PartNumber: SN74AHCT157DGVR; VCC(Min)(V): 4.5; VCC(Max)(V): 5.5; Output Type: CMOS; Function: Encoder/Multiplexer; ICC @ Nom Voltage(Max)(mA): 0.02; Input Type: TTL; Bits(#): 2; F @ Nom Voltage(Max)(Mhz): 70; Configuration: 2：1; Channels(#): 4; Rating: Catalog; Technology Family: AHCT; Voltage(Nom)(V): 5; Schmitt Trigger: No; Output Drive (IOL/IOH)(Max)(mA): 8/-8; tpd @ Nom Voltage(Max)(ns): 7.5; DatasheetVersion: SCLS347K; PackageReference: DGV0016A; Supplier 1: Mouser; Supplier Part Number 1: 595-SN74AHCT157DGVR; Supplier 2: Digi-Key; Supplier Part Number 2: 296-4677-2-ND; Supplier 3: Digi-Key; Supplier Part Number 3: 296-4677-1-ND; Supplier 4: Digi-Key; Supplier Part Number 4: 296-4677-6-ND; Operating Temperature Range(C): -40 to 85; Type: Standard; Code_JEDEC: MO-194; ComponentLink1Description: Manufacturer URL; ComponentLink1URL: http://www.ti.com/; ComponentLink2Description: Datasheet; ComponentLink2URL: http://www.ti.com/lit/ds/symlink/sn74ahct157.pdf; ComponentLink3Description: Package Specification; ComponentLink3URL: http://www.ti.com/lit/ml/mpds006c/mpds006c.pdf
footprint DGV0016A_N (SOP, 16-Leads, Body 4.5x3.7mm, Pitch 0.4mm, IPC Medium Density)
footprint DGV0016A_M (SOP, 16-Leads, Body 4.5x3.7mm, Pitch 0.4mm, IPC Low Density)
footprint DGV0016A_L (SOP, 16-Leads, Body 4.5x3.7mm, Pitch 0.4mm, IPC High Density)
pins: 1 ~{A}/B (in), 2 1A (in), 3 1B (in), 4 1Y (out), 5 2A (in), 6 2B (in), 7 2Y (out), 8 GND (power), 9 3Y (out), 10 3B (in), 11 3A (in), 12 4Y (out), 13 4B (in), 14 4A (in), 15 ~{G} (in), 16 VCC (power)

## SN74AHCT157DR
designator U?
Quadruple 2-Line To 1-Line Data Selectors / Multiplexers, D0016A, LARGE T&R; Generic Part Number: SN74AHCT157; Manufacturer: Texas Instruments; PartNumber: SN74AHCT157DR; VCC(Min)(V): 4.5; VCC(Max)(V): 5.5; Output Type: CMOS; Function: Encoder/Multiplexer; ICC @ Nom Voltage(Max)(mA): 0.02; Input Type: TTL; Bits(#): 2; F @ Nom Voltage(Max)(Mhz): 70; Configuration: 2：1; Channels(#): 4; Rating: Catalog; Technology Family: AHCT; Voltage(Nom)(V): 5; Schmitt Trigger: No; Output Drive (IOL/IOH)(Max)(mA): 8/-8; tpd @ Nom Voltage(Max)(ns): 7.5; DatasheetVersion: SCLS347K; PackageReference: D0016A; Supplier 1: Mouser; Supplier Part Number 1: 595-SN74AHCT157DR; Supplier 2: Digi-Key; Supplier Part Number 2: 296-14703-2-ND; Supplier 3: Digi-Key; Supplier Part Number 3: 296-14703-1-ND; Supplier 4: Digi-Key; Supplier Part Number 4: 296-14703-6-ND; Operating Temperature Range(C): -40 to 85; Type: Standard; Code_JEDEC: MS-012 variation AC; ComponentLink1Description: Manufacturer URL; ComponentLink1URL: http://www.ti.com/; ComponentLink2Description: Datasheet; ComponentLink2URL: http://www.ti.com/lit/ds/symlink/sn74ahct157.pdf; ComponentLink3Description: Package Specification; ComponentLink3URL: http://www.ti.com/lit/ml/mpds178g/mpds178g.pdf
footprint D0016A_N (SOIC, 16-Leads, Body 10x4mm, Pitch 1.27mm, IPC Medium Density)
footprint D0016A_M (SOIC, 16-Leads, Body 10x4mm, Pitch 1.27mm, IPC Low Density)
footprint D0016A_L (SOIC, 16-Leads, Body 10x4mm, Pitch 1.27mm, IPC High Density)
pins: 1 ~{A}/B (in), 2 1A (in), 3 1B (in), 4 1Y (out), 5 2A (in), 6 2B (in), 7 2Y (out), 8 GND (power), 9 3Y (out), 10 3B (in), 11 3A (in), 12 4Y (out), 13 4B (in), 14 4A (in), 15 ~{G} (in), 16 VCC (power)

## SN74AHCT157N
designator U?
Quadruple 2-Line To 1-Line Data Selectors / Multiplexers, N0016A, TUBE; Generic Part Number: SN74AHCT157; Manufacturer: Texas Instruments; PartNumber: SN74AHCT157N; VCC(Min)(V): 4.5; VCC(Max)(V): 5.5; Output Type: CMOS; Function: Encoder/Multiplexer; ICC @ Nom Voltage(Max)(mA): 0.02; Input Type: TTL; Bits(#): 2; F @ Nom Voltage(Max)(Mhz): 70; Configuration: 2：1; Channels(#): 4; Rating: Catalog; Technology Family: AHCT; Voltage(Nom)(V): 5; Schmitt Trigger: No; Output Drive (IOL/IOH)(Max)(mA): 8/-8; tpd @ Nom Voltage(Max)(ns): 7.5; DatasheetVersion: SCLS347K; PackageReference: N0016A; Supplier 1: Mouser; Supplier Part Number 1: 595-SN74AHCT157N; Supplier 2: Digi-Key; Supplier Part Number 2: 296-33688-5-ND; Operating Temperature Range(C): -40 to 85; Type: Standard; Code_JEDEC: MS-001; ComponentLink1Description: Manufacturer URL; ComponentLink1URL: http://www.ti.com/; ComponentLink2Description: Datasheet; ComponentLink2URL: http://www.ti.com/lit/ds/symlink/sn74ahct157.pdf; ComponentLink3Description: Package Specification; ComponentLink3URL: http://www.ti.com/lit/ml/mpdi002c/mpdi002c.pdf
footprint N0016A (DIP, 16-Leads, Body 19.7x6.6mm, Pitch 2.54mm)
pins: 1 ~{A}/B (in), 2 1A (in), 3 1B (in), 4 1Y (out), 5 2A (in), 6 2B (in), 7 2Y (out), 8 GND (power), 9 3Y (out), 10 3B (in), 11 3A (in), 12 4Y (out), 13 4B (in), 14 4A (in), 15 ~{G} (in), 16 VCC (power)

## SN74AHCT157PW
designator U?
Quadruple 2-Line To 1-Line Data Selectors / Multiplexers, PW0016A, TUBE; Generic Part Number: SN74AHCT157; Manufacturer: Texas Instruments; PartNumber: SN74AHCT157PW; VCC(Min)(V): 4.5; VCC(Max)(V): 5.5; Output Type: CMOS; Function: Encoder/Multiplexer; ICC @ Nom Voltage(Max)(mA): 0.02; Input Type: TTL; Bits(#): 2; F @ Nom Voltage(Max)(Mhz): 70; Configuration: 2：1; Channels(#): 4; Rating: Catalog; Technology Family: AHCT; Voltage(Nom)(V): 5; Schmitt Trigger: No; Output Drive (IOL/IOH)(Max)(mA): 8/-8; tpd @ Nom Voltage(Max)(ns): 7.5; DatasheetVersion: SCLS347K; PackageReference: PW0016A; Supplier 1: Mouser; Supplier Part Number 1: 595-SN74AHCT157PW; Supplier 2: Digi-Key; Supplier Part Number 2: 296-33689-5-ND; Operating Temperature Range(C): -40 to 85; Type: Standard; Code_JEDEC: MO-153; ComponentLink1Description: Manufacturer URL; ComponentLink1URL: http://www.ti.com/; ComponentLink2Description: Datasheet; ComponentLink2URL: http://www.ti.com/lit/ds/symlink/sn74ahct157.pdf; ComponentLink3Description: Package Specification; ComponentLink3URL: http://www.ti.com/lit/ml/mpds361/mpds361.pdf
footprint PW0016A_N (SOP, 16-Leads, Body 5.1x4.5mm, Pitch 0.65mm, IPC Medium Density)
footprint PW0016A_M (SOP, 16-Leads, Body 5.1x4.5mm, Pitch 0.65mm, IPC Low Density)
footprint PW0016A_L (SOP, 16-Leads, Body 5.1x4.5mm, Pitch 0.65mm, IPC High Density)
pins: 1 ~{A}/B (in), 2 1A (in), 3 1B (in), 4 1Y (out), 5 2A (in), 6 2B (in), 7 2Y (out), 8 GND (power), 9 3Y (out), 10 3B (in), 11 3A (in), 12 4Y (out), 13 4B (in), 14 4A (in), 15 ~{G} (in), 16 VCC (power)

## SN74AHCT157PWR
designator U?
Quadruple 2-Line To 1-Line Data Selectors / Multiplexers, PW0016A, LARGE T&R; Generic Part Number: SN74AHCT157; Manufacturer: Texas Instruments; PartNumber: SN74AHCT157PWR; VCC(Min)(V): 4.5; VCC(Max)(V): 5.5; Output Type: CMOS; Function: Encoder/Multiplexer; ICC @ Nom Voltage(Max)(mA): 0.02; Input Type: TTL; Bits(#): 2; F @ Nom Voltage(Max)(Mhz): 70; Configuration: 2：1; Channels(#): 4; Rating: Catalog; Technology Family: AHCT; Voltage(Nom)(V): 5; Schmitt Trigger: No; Output Drive (IOL/IOH)(Max)(mA): 8/-8; tpd @ Nom Voltage(Max)(ns): 7.5; DatasheetVersion: SCLS347K; PackageReference: PW0016A; Supplier 1: Mouser; Supplier Part Number 1: 595-SN74AHCT157PWR; Supplier 2: Digi-Key; Supplier Part Number 2: 296-4678-2-ND; Supplier 3: Digi-Key; Supplier Part Number 3: 296-4678-1-ND; Supplier 4: Digi-Key; Supplier Part Number 4: 296-4678-6-ND; Operating Temperature Range(C): -40 to 85; Type: Standard; Code_JEDEC: MO-153; ComponentLink1Description: Manufacturer URL; ComponentLink1URL: http://www.ti.com/; ComponentLink2Description: Datasheet; ComponentLink2URL: http://www.ti.com/lit/ds/symlink/sn74ahct157.pdf; ComponentLink3Description: Package Specification; ComponentLink3URL: http://www.ti.com/lit/ml/mpds361/mpds361.pdf
footprint PW0016A_N (SOP, 16-Leads, Body 5.1x4.5mm, Pitch 0.65mm, IPC Medium Density)
footprint PW0016A_M (SOP, 16-Leads, Body 5.1x4.5mm, Pitch 0.65mm, IPC Low Density)
footprint PW0016A_L (SOP, 16-Leads, Body 5.1x4.5mm, Pitch 0.65mm, IPC High Density)
pins: 1 ~{A}/B (in), 2 1A (in), 3 1B (in), 4 1Y (out), 5 2A (in), 6 2B (in), 7 2Y (out), 8 GND (power), 9 3Y (out), 10 3B (in), 11 3A (in), 12 4Y (out), 13 4B (in), 14 4A (in), 15 ~{G} (in), 16 VCC (power)

## SN74AHCT158D
designator U?
Quadruple 2-Line To 1-Line Data Selectors / Multiplexers, D0016A, TUBE; Generic Part Number: SN74AHCT158; Manufacturer: Texas Instruments; PartNumber: SN74AHCT158D; VCC(Min)(V): 4.5; VCC(Max)(V): 5.5; Output Type: CMOS; Function: Encoder/Multiplexer; ICC @ Nom Voltage(Max)(mA): 0.02; Input Type: TTL; Bits(#): 2; F @ Nom Voltage(Max)(Mhz): 70; Configuration: 2：1; Channels(#): 4; Rating: Catalog; Technology Family: AHCT; Voltage(Nom)(V): 5; Schmitt Trigger: No; Output Drive (IOL/IOH)(Max)(mA): 8/-8; tpd @ Nom Voltage(Max)(ns): 7.5; DatasheetVersion: SCLS348J; PackageReference: D0016A; Supplier 1: Mouser; Supplier Part Number 1: 595-SN74AHCT158D; Supplier 2: Digi-Key; Supplier Part Number 2: 296-4679-5-ND; Operating Temperature Range(C): -40 to 85; Type: Standard; Code_JEDEC: MS-012 variation AC; ComponentLink1Description: Manufacturer URL; ComponentLink1URL: http://www.ti.com/; ComponentLink2Description: Datasheet; ComponentLink2URL: http://www.ti.com/lit/ds/symlink/sn74ahct158.pdf; ComponentLink3Description: Package Specification; ComponentLink3URL: http://www.ti.com/lit/ml/mpds178g/mpds178g.pdf
footprint D0016A_N (SOIC, 16-Leads, Body 10x4mm, Pitch 1.27mm, IPC Medium Density)
footprint D0016A_M (SOIC, 16-Leads, Body 10x4mm, Pitch 1.27mm, IPC Low Density)
footprint D0016A_L (SOIC, 16-Leads, Body 10x4mm, Pitch 1.27mm, IPC High Density)
pins: 1 ~{A}/B (in), 2 1A (in), 3 1B (in), 4 1Y (out), 5 2A (in), 6 2B (in), 7 2Y (out), 8 GND (power), 9 3Y (out), 10 3B (in), 11 3A (in), 12 4Y (out), 13 4B (in), 14 4A (in), 15 ~{G} (in), 16 VCC (power)

## SN74AHCT158PW
designator U?
Quadruple 2-Line To 1-Line Data Selectors / Multiplexers, PW0016A, TUBE; Generic Part Number: SN74AHCT158; Manufacturer: Texas Instruments; PartNumber: SN74AHCT158PW; VCC(Min)(V): 4.5; VCC(Max)(V): 5.5; Output Type: CMOS; Function: Encoder/Multiplexer; ICC @ Nom Voltage(Max)(mA): 0.02; Input Type: TTL; Bits(#): 2; F @ Nom Voltage(Max)(Mhz): 70; Configuration: 2：1; Channels(#): 4; Rating: Catalog; Technology Family: AHCT; Voltage(Nom)(V): 5; Schmitt Trigger: No; Output Drive (IOL/IOH)(Max)(mA): 8/-8; tpd @ Nom Voltage(Max)(ns): 7.5; DatasheetVersion: SCLS348J; PackageReference: PW0016A; Supplier 1: Mouser; Supplier Part Number 1: 595-SN74AHCT158PW; Supplier 2: Digi-Key; Supplier Part Number 2: SN74AHCT158PW-ND; Operating Temperature Range(C): -40 to 85; Type: Standard; Code_JEDEC: MO-153; ComponentLink1Description: Manufacturer URL; ComponentLink1URL: http://www.ti.com/; ComponentLink2Description: Datasheet; ComponentLink2URL: http://www.ti.com/lit/ds/symlink/sn74ahct158.pdf; ComponentLink3Description: Package Specification; ComponentLink3URL: http://www.ti.com/lit/ml/mpds361/mpds361.pdf
footprint PW0016A_N (SOP, 16-Leads, Body 5.1x4.5mm, Pitch 0.65mm, IPC Medium Density)
footprint PW0016A_M (SOP, 16-Leads, Body 5.1x4.5mm, Pitch 0.65mm, IPC Low Density)
footprint PW0016A_L (SOP, 16-Leads, Body 5.1x4.5mm, Pitch 0.65mm, IPC High Density)
pins: 1 ~{A}/B (in), 2 1A (in), 3 1B (in), 4 1Y (out), 5 2A (in), 6 2B (in), 7 2Y (out), 8 GND (power), 9 3Y (out), 10 3B (in), 11 3A (in), 12 4Y (out), 13 4B (in), 14 4A (in), 15 ~{G} (in), 16 VCC (power)

## SN74AHCT158PWR
designator U?
Quadruple 2-Line To 1-Line Data Selectors / Multiplexers, PW0016A, LARGE T&R; Generic Part Number: SN74AHCT158; Manufacturer: Texas Instruments; PartNumber: SN74AHCT158PWR; VCC(Min)(V): 4.5; VCC(Max)(V): 5.5; Output Type: CMOS; Function: Encoder/Multiplexer; ICC @ Nom Voltage(Max)(mA): 0.02; Input Type: TTL; Bits(#): 2; F @ Nom Voltage(Max)(Mhz): 70; Configuration: 2：1; Channels(#): 4; Rating: Catalog; Technology Family: AHCT; Voltage(Nom)(V): 5; Schmitt Trigger: No; Output Drive (IOL/IOH)(Max)(mA): 8/-8; tpd @ Nom Voltage(Max)(ns): 7.5; DatasheetVersion: SCLS348J; PackageReference: PW0016A; Supplier 1: Mouser; Supplier Part Number 1: 595-SN74AHCT158PWR; Supplier 2: Digi-Key; Supplier Part Number 2: 296-4680-2-ND; Supplier 3: Digi-Key; Supplier Part Number 3: 296-4680-1-ND; Supplier 4: Digi-Key; Supplier Part Number 4: 296-4680-6-ND; Operating Temperature Range(C): -40 to 85; Type: Standard; Code_JEDEC: MO-153; ComponentLink1Description: Manufacturer URL; ComponentLink1URL: http://www.ti.com/; ComponentLink2Description: Datasheet; ComponentLink2URL: http://www.ti.com/lit/ds/symlink/sn74ahct158.pdf; ComponentLink3Description: Package Specification; ComponentLink3URL: http://www.ti.com/lit/ml/mpds361/mpds361.pdf
footprint PW0016A_N (SOP, 16-Leads, Body 5.1x4.5mm, Pitch 0.65mm, IPC Medium Density)
footprint PW0016A_M (SOP, 16-Leads, Body 5.1x4.5mm, Pitch 0.65mm, IPC Low Density)
footprint PW0016A_L (SOP, 16-Leads, Body 5.1x4.5mm, Pitch 0.65mm, IPC High Density)
pins: 1 ~{A}/B (in), 2 1A (in), 3 1B (in), 4 1Y (out), 5 2A (in), 6 2B (in), 7 2Y (out), 8 GND (power), 9 3Y (out), 10 3B (in), 11 3A (in), 12 4Y (out), 13 4B (in), 14 4A (in), 15 ~{G} (in), 16 VCC (power)

## SN74ALS137AD
designator U?
3-Line to 8-Line Decoders/Demultiplexers With Address Latches, D0016A, TUBE; Generic Part Number: SN74ALS137A; Manufacturer: Texas Instruments; PartNumber: SN74ALS137AD; VCC(Min)(V): 4.5; VCC(Max)(V): 5.5; Output Type: TTL; Function: Decoder/Demultiplexer; ICC @ Nom Voltage(Max)(mA): 11; Bits(#): 8; F @ Nom Voltage(Max)(Mhz): 75; Configuration: 3：8; Channels(#): 1; Rating: Catalog; Technology Family: ALS; Voltage(Nom)(V): 5; Schmitt Trigger: No; Output Drive (IOL/IOH)(Max)(mA): 8/-0.4; tpd @ Nom Voltage(Max)(ns): 20; DatasheetVersion: SDAS203C; PackageReference: D0016A; Supplier 1: Mouser; Supplier Part Number 1: 595-SN74ALS137AD; Supplier 2: Digi-Key; Supplier Part Number 2: 296-33706-5-ND; Input Type: TTL; Operating Temperature Range(C): 0 to 70; Type: Standard; Code_JEDEC: MS-012 variation AC; ComponentLink1Description: Manufacturer URL; ComponentLink1URL: http://www.ti.com/; ComponentLink2Description: Datasheet; ComponentLink2URL: http://www.ti.com/lit/ds/symlink/sn74als137a.pdf; ComponentLink3Description: Package Specification; ComponentLink3URL: http://www.ti.com/lit/ml/mpds178g/mpds178g.pdf
footprint D0016A_N (SOIC, 16-Leads, Body 10x4mm, Pitch 1.27mm, IPC Medium Density)
footprint D0016A_M (SOIC, 16-Leads, Body 10x4mm, Pitch 1.27mm, IPC Low Density)
footprint D0016A_L (SOIC, 16-Leads, Body 10x4mm, Pitch 1.27mm, IPC High Density)
pins: 1 A (in), 2 B (in), 3 C (in), 4 ~{LE} (in), 5 ~{G2} (in), 6 G1 (in), 7 ~{Y7} (out), 8 GND (power), 9 ~{Y6} (out), 10 ~{Y5} (out), 11 ~{Y4} (out), 12 ~{Y3} (out), 13 ~{Y2} (out), 14 ~{Y1} (out), 15 ~{Y0} (out), 16 VCC (power)

## SN74ALS137AN
designator U?
3-Line to 8-Line Decoders/Demultiplexers With Address Latches, N0016A, TUBE; Generic Part Number: SN74ALS137A; Manufacturer: Texas Instruments; PartNumber: SN74ALS137AN; VCC(Min)(V): 4.5; VCC(Max)(V): 5.5; Output Type: TTL; Function: Decoder/Demultiplexer; ICC @ Nom Voltage(Max)(mA): 11; Bits(#): 8; F @ Nom Voltage(Max)(Mhz): 75; Configuration: 3：8; Channels(#): 1; Rating: Catalog; Technology Family: ALS; Voltage(Nom)(V): 5; Schmitt Trigger: No; Output Drive (IOL/IOH)(Max)(mA): 8/-0.4; tpd @ Nom Voltage(Max)(ns): 20; DatasheetVersion: SDAS203C; PackageReference: N0016A; Supplier 1: Mouser; Supplier Part Number 1: 595-SN74ALS137AN; Supplier 2: Digi-Key; Supplier Part Number 2: 296-33707-5-ND; Input Type: TTL; Operating Temperature Range(C): 0 to 70; Type: Standard; Code_JEDEC: MS-001; ComponentLink1Description: Manufacturer URL; ComponentLink1URL: http://www.ti.com/; ComponentLink2Description: Datasheet; ComponentLink2URL: http://www.ti.com/lit/ds/symlink/sn74als137a.pdf; ComponentLink3Description: Package Specification; ComponentLink3URL: http://www.ti.com/lit/ml/mpdi002c/mpdi002c.pdf
footprint N0016A (DIP, 16-Leads, Body 19.7x6.6mm, Pitch 2.54mm)
pins: 1 A (in), 2 B (in), 3 C (in), 4 ~{LE} (in), 5 ~{G2} (in), 6 G1 (in), 7 ~{Y7} (out), 8 GND (power), 9 ~{Y6} (out), 10 ~{Y5} (out), 11 ~{Y4} (out), 12 ~{Y3} (out), 13 ~{Y2} (out), 14 ~{Y1} (out), 15 ~{Y0} (out), 16 VCC (power)

## SN74ALS138AD
designator U?
3-Line to 8-Line Decoders/Demultiplexers, D0016A, TUBE; Generic Part Number: SN74ALS138A; Manufacturer: Texas Instruments; PartNumber: SN74ALS138AD; VCC(Min)(V): 4.5; VCC(Max)(V): 5.5; Output Type: TTL; Function: Decoder/Demultiplexer; ICC @ Nom Voltage(Max)(mA): 10; Bits(#): 8; F @ Nom Voltage(Max)(Mhz): 75; Configuration: 3：8; Channels(#): 1; Rating: Catalog; Technology Family: ALS; Voltage(Nom)(V): 5; Schmitt Trigger: No; Output Drive (IOL/IOH)(Max)(mA): 8/-0.4; tpd @ Nom Voltage(Max)(ns): 22; DatasheetVersion: SDAS055E; PackageReference: D0016A; Supplier 1: Mouser; Supplier Part Number 1: 595-SN74ALS138AD; Supplier 2: Digi-Key; Supplier Part Number 2: 296-5018-5-ND; Input Type: TTL; Operating Temperature Range(C): 0 to 70; Type: Standard; Code_JEDEC: MS-012 variation AC; ComponentLink1Description: Manufacturer URL; ComponentLink1URL: http://www.ti.com/; ComponentLink2Description: Datasheet; ComponentLink2URL: http://www.ti.com/lit/ds/symlink/sn74als138a.pdf; ComponentLink3Description: Package Specification; ComponentLink3URL: http://www.ti.com/lit/ml/mpds178g/mpds178g.pdf
footprint D0016A_N (SOIC, 16-Leads, Body 10x4mm, Pitch 1.27mm, IPC Medium Density)
footprint D0016A_M (SOIC, 16-Leads, Body 10x4mm, Pitch 1.27mm, IPC Low Density)
footprint D0016A_L (SOIC, 16-Leads, Body 10x4mm, Pitch 1.27mm, IPC High Density)
pins: 1 A (in), 2 B (in), 3 C (in), 4 ~{G2A} (in), 5 ~{G2B} (in), 6 G1 (in), 7 ~{Y7} (out), 8 GND (power), 9 ~{Y6} (out), 10 ~{Y5} (out), 11 ~{Y4} (out), 12 ~{Y3} (out), 13 ~{Y2} (out), 14 ~{Y1} (out), 15 ~{Y0} (out), 16 VCC (power)

## SN74ALS138ADR
designator U?
3-Line to 8-Line Decoders/Demultiplexers, D0016A, LARGE T&R; Generic Part Number: SN74ALS138A; Manufacturer: Texas Instruments; PartNumber: SN74ALS138ADR; VCC(Min)(V): 4.5; VCC(Max)(V): 5.5; Output Type: TTL; Function: Decoder/Demultiplexer; ICC @ Nom Voltage(Max)(mA): 10; Bits(#): 8; F @ Nom Voltage(Max)(Mhz): 75; Configuration: 3：8; Channels(#): 1; Rating: Catalog; Technology Family: ALS; Voltage(Nom)(V): 5; Schmitt Trigger: No; Output Drive (IOL/IOH)(Max)(mA): 8/-0.4; tpd @ Nom Voltage(Max)(ns): 22; DatasheetVersion: SDAS055E; PackageReference: D0016A; Supplier 1: Mouser; Supplier Part Number 1: 595-SN74ALS138ADR; Supplier 2: Digi-Key; Supplier Part Number 2: 296-14714-2-ND; Supplier 3: Digi-Key; Supplier Part Number 3: 296-14714-1-ND; Supplier 4: Digi-Key; Supplier Part Number 4: 296-14714-6-ND; Input Type: TTL; Operating Temperature Range(C): 0 to 70; Type: Standard; Code_JEDEC: MS-012 variation AC; ComponentLink1Description: Manufacturer URL; ComponentLink1URL: http://www.ti.com/; ComponentLink2Description: Datasheet; ComponentLink2URL: http://www.ti.com/lit/ds/symlink/sn74als138a.pdf; ComponentLink3Description: Package Specification; ComponentLink3URL: http://www.ti.com/lit/ml/mpds178g/mpds178g.pdf
footprint D0016A_N (SOIC, 16-Leads, Body 10x4mm, Pitch 1.27mm, IPC Medium Density)
footprint D0016A_M (SOIC, 16-Leads, Body 10x4mm, Pitch 1.27mm, IPC Low Density)
footprint D0016A_L (SOIC, 16-Leads, Body 10x4mm, Pitch 1.27mm, IPC High Density)
pins: 1 A (in), 2 B (in), 3 C (in), 4 ~{G2A} (in), 5 ~{G2B} (in), 6 G1 (in), 7 ~{Y7} (out), 8 GND (power), 9 ~{Y6} (out), 10 ~{Y5} (out), 11 ~{Y4} (out), 12 ~{Y3} (out), 13 ~{Y2} (out), 14 ~{Y1} (out), 15 ~{Y0} (out), 16 VCC (power)

## SN74ALS138AN
designator U?
3-Line to 8-Line Decoders/Demultiplexers, N0016A, TUBE; Generic Part Number: SN74ALS138A; Manufacturer: Texas Instruments; PartNumber: SN74ALS138AN; VCC(Min)(V): 4.5; VCC(Max)(V): 5.5; Output Type: TTL; Function: Decoder/Demultiplexer; ICC @ Nom Voltage(Max)(mA): 10; Bits(#): 8; F @ Nom Voltage(Max)(Mhz): 75; Configuration: 3：8; Channels(#): 1; Rating: Catalog; Technology Family: ALS; Voltage(Nom)(V): 5; Schmitt Trigger: No; Output Drive (IOL/IOH)(Max)(mA): 8/-0.4; tpd @ Nom Voltage(Max)(ns): 22; DatasheetVersion: SDAS055E; PackageReference: N0016A; Supplier 1: Mouser; Supplier Part Number 1: 595-SN74ALS138AN; Supplier 2: Digi-Key; Supplier Part Number 2: 296-1485-5-ND; Input Type: TTL; Operating Temperature Range(C): 0 to 70; Type: Standard; Code_JEDEC: MS-001; ComponentLink1Description: Manufacturer URL; ComponentLink1URL: http://www.ti.com/; ComponentLink2Description: Datasheet; ComponentLink2URL: http://www.ti.com/lit/ds/symlink/sn74als138a.pdf; ComponentLink3Description: Package Specification; ComponentLink3URL: http://www.ti.com/lit/ml/mpdi002c/mpdi002c.pdf
footprint N0016A (DIP, 16-Leads, Body 19.7x6.6mm, Pitch 2.54mm)
pins: 1 A (in), 2 B (in), 3 C (in), 4 ~{G2A} (in), 5 ~{G2B} (in), 6 G1 (in), 7 ~{Y7} (out), 8 GND (power), 9 ~{Y6} (out), 10 ~{Y5} (out), 11 ~{Y4} (out), 12 ~{Y3} (out), 13 ~{Y2} (out), 14 ~{Y1} (out), 15 ~{Y0} (out), 16 VCC (power)

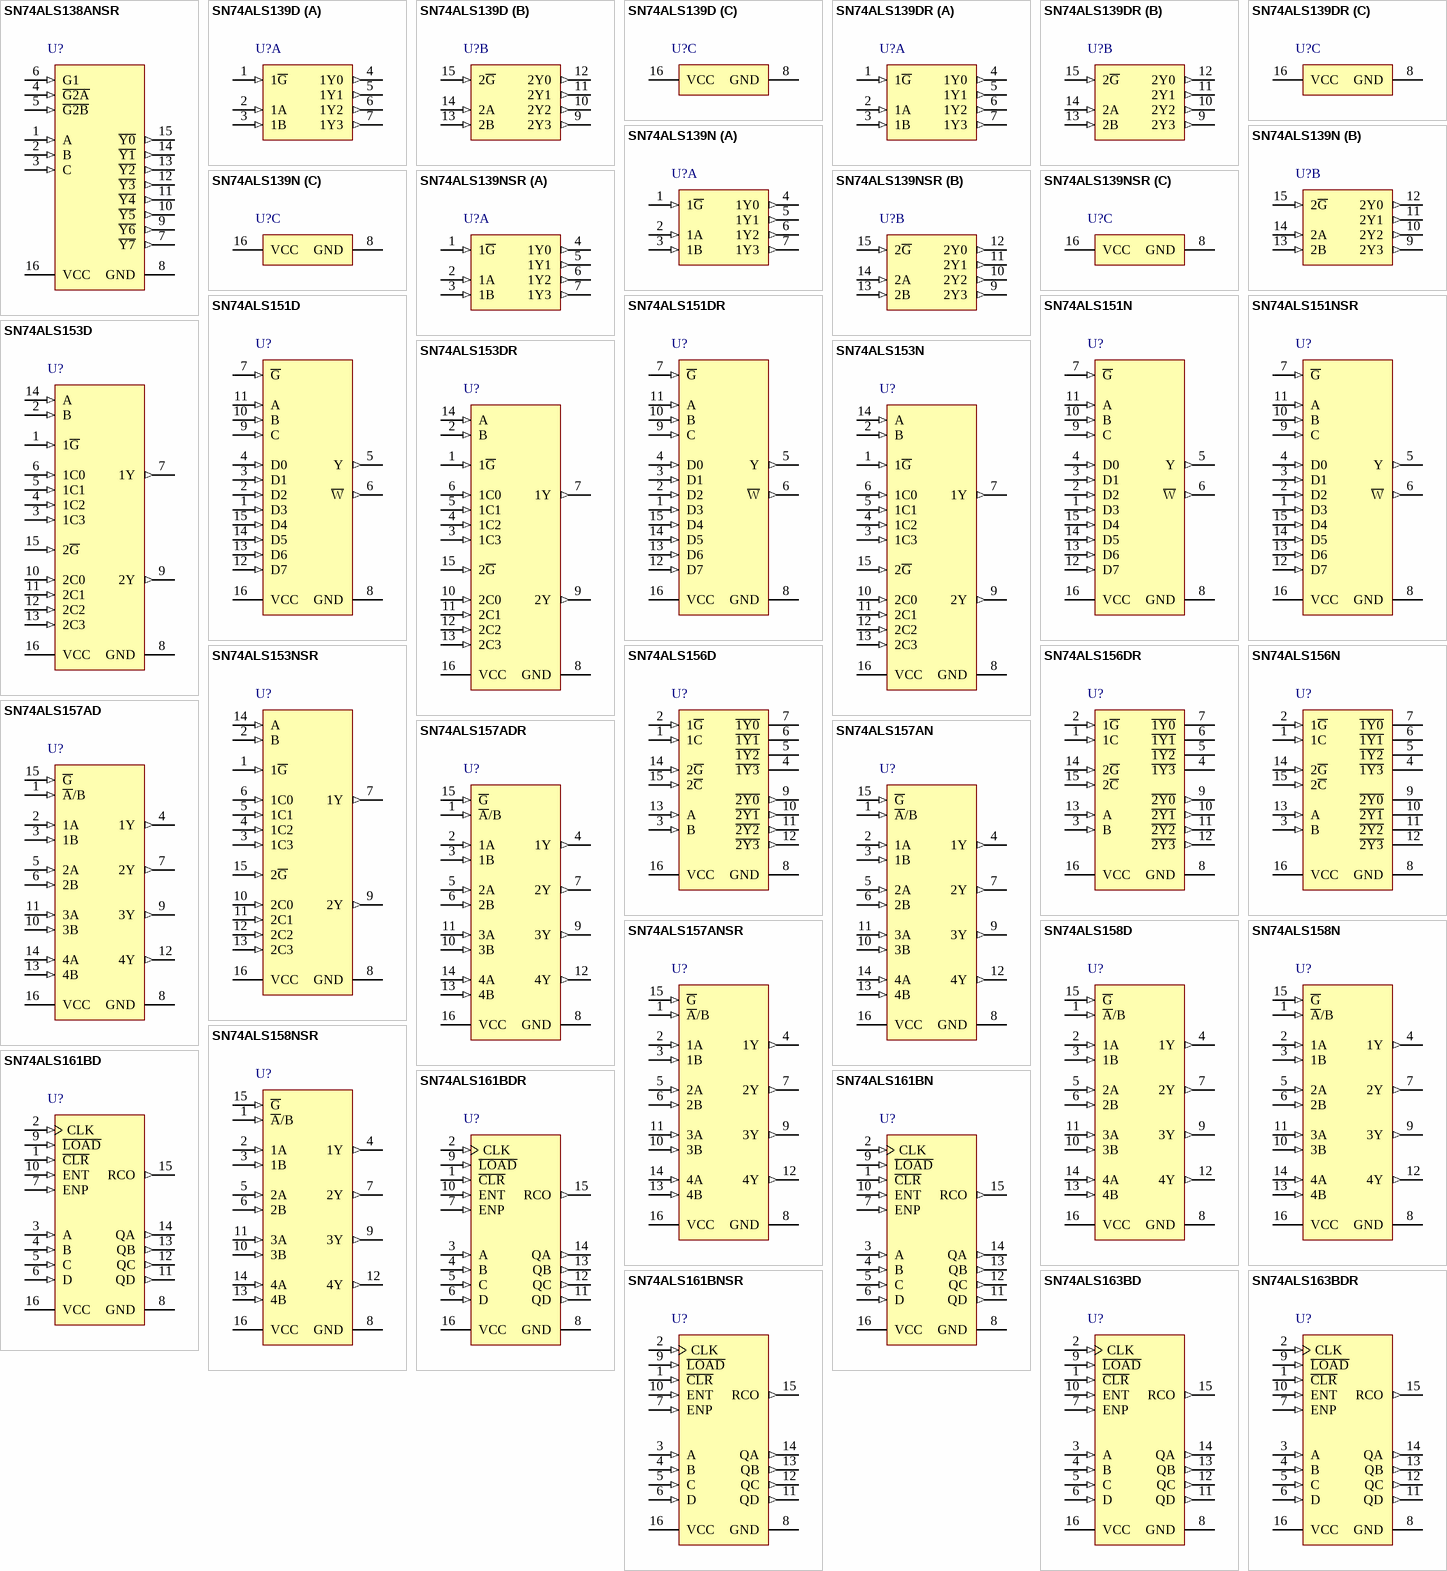
[diagram p53: symbols SN74ALS138ANSR to SN74ALS163BDR]